# EAGLE library part PIN_1X6 (library FaBo-PIN)
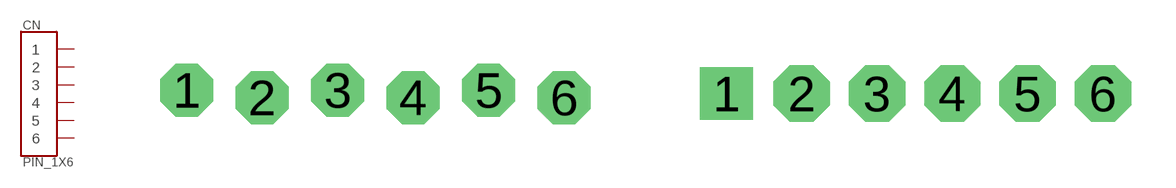
[diagram p3: symbol with the pads of PIN_1X6_SNEAKY; footprints PIN_1X6_SNEAKY, PIN_1X6]

Designator prefix CN

## PIN_1X6-SNEAKY  [PIN_1X6_SNEAKY]
1  1
2  2
3  3
4  4
5  5
6  6

## PIN_1X6  [PIN_1X6]
Pads as for PIN_1X6_SNEAKY

## PIN_1X6-2MM  [PIN_1X6_2MM]
Pads as for PIN_1X6_SNEAKY

## Footprint PIN_1X6_SNEAKY (pad centres in mm)
drill 1 pad 1.778 octagon: 1 -6.35,0.127; 2 -3.81,-0.127; 3 -1.27,0.127; 4 1.27,-0.127; 5 3.81,0.127; 6 6.35,-0.127

## Footprint PIN_1X6 (pad centres in mm)
drill 1.1 pad 1.778 square: 1 -6.35,0
drill 1.1 pad 1.9 octagon: 2 -3.81,0; 3 -1.27,0; 4 1.27,0; 5 3.81,0; 6 6.35,0

## Footprint PIN_1X6_2MM (pad centres in mm)
drill 0.6 square: 1 -5,0
drill 0.6 octagon: 2 -3,0; 3 -1,0; 4 1,0; 5 3,0; 6 5,0